# EAGLE library part RKJXT1_V3 (library RKJXT1 Board v6)
Multi-Directional Switches 4 drectnl swtch cntr push w/ an encoder Source: Datasheet <http://www.alps.com/prod/info/E/HTML/MultiControl/Switch/RKJXT/RKJXT1F42001.html>
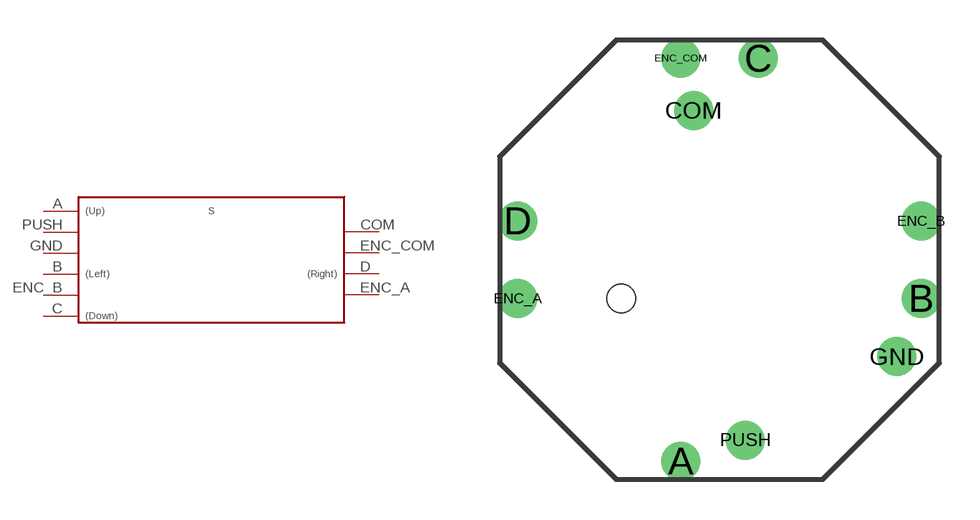
[diagram p0: symbol with the pads of RKJXT1_V3; footprint RKJXT1_V3]

Designator prefix S

## RKJXT1_V3  [RKJXT1_V3]
A  A
B  B
C  C
COM  COM
D  D
ENC_A  ENC_A
ENC_B  ENC_B
ENC_COM  ENC_COM
GND  GND
PUSH  PUSH

## Footprint RKJXT1_V3 (pad centres in mm)
RKJXT1F42001
drill 1 pad 1.5: A -1.5,-7.8; B 7.8,-1.5; C 1.5,7.8; COM -1,5.78; D -7.8,1.5; ENC_A -7.8,-1.5; ENC_B 7.8,1.5; ENC_COM -1.5,7.8; GND 6.86,-3.75; PUSH 1,-6.98
hole 1.1 at -3.8,-1.5